# EAGLE library part CC1101 (library M6-RF315)
CC1101 Texas Instruments CC1101 Radio Chip. Source: http://www.ti.com/lit/gpn/cc1101
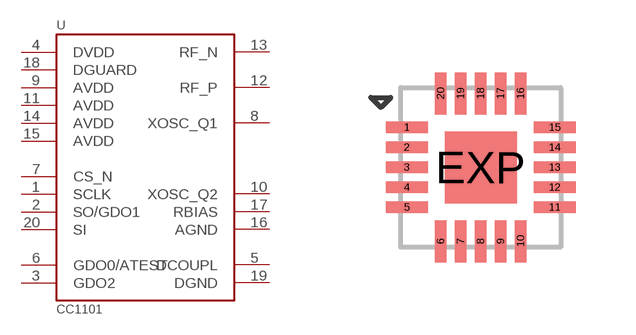
[diagram p1: symbol with the pads of QFN-20; footprint QFN-20]

Designator prefix U

## CC1101RTKR (DIGI-KEY#: 296-21981-1-ND; MF: Texas Instruments; MPN: CC1101RTKR)  [QFN-20]
1  SCLK  in
2  SO/GDO1  out
3  GDO2  out
4  DVDD  pwr
5  DCOUPL  pwr
6  GDO0/ATEST
7  CS_N  in
8  XOSC_Q1  in
9  AVDD  pwr
10  XOSC_Q2  out
11  AVDD  pwr
12  RF_P  pas
13  RF_N  pas
14  AVDD  pwr
15  AVDD  pwr
16  AGND  pwr
17  RBIAS  pas
18  DGUARD  pwr
19  DGND  pwr
20  SI  in
EXP  AGND  pwr

## Footprint QFN-20 (pad centres in mm)
QFN-8 packager Note: This package is created according to the IPC-7351B standard, but the SMD pin outline widths have been shrung to 0.28 mm from 0.30 mm.
smd 1.05 x 0.28: 1 -1.85,1; 2 -1.85,0.5; 3 -1.85,0; 4 -1.85,-0.5; 5 -1.85,-1; 11 1.85,-1; 12 1.85,-0.5; 13 1.85,0; 14 1.85,0.5; 15 1.85,1
smd 0.28 x 1.05: 6 -1,-1.85; 7 -0.5,-1.85; 8 0,-1.85; 9 0.5,-1.85; 10 1,-1.85; 16 1,1.85; 17 0.5,1.85; 18 0,1.85; 19 -0.5,1.85; 20 -1,1.85
smd 1.8 x 1.8: EXP 0,0